# Altium footprint library Neutrik_NC4MBV.PcbLib: 1 footprints
Each footprint in its own frame and in the unit in brackets; x right, y up, seen from the top. Pads: shape width x height; smd on the part's side, far side on the other; paste and mask are expansions set on the pad; w line width, h text height; cw(c..) or ccw(c..) is an arc to the next point about the centre after c.
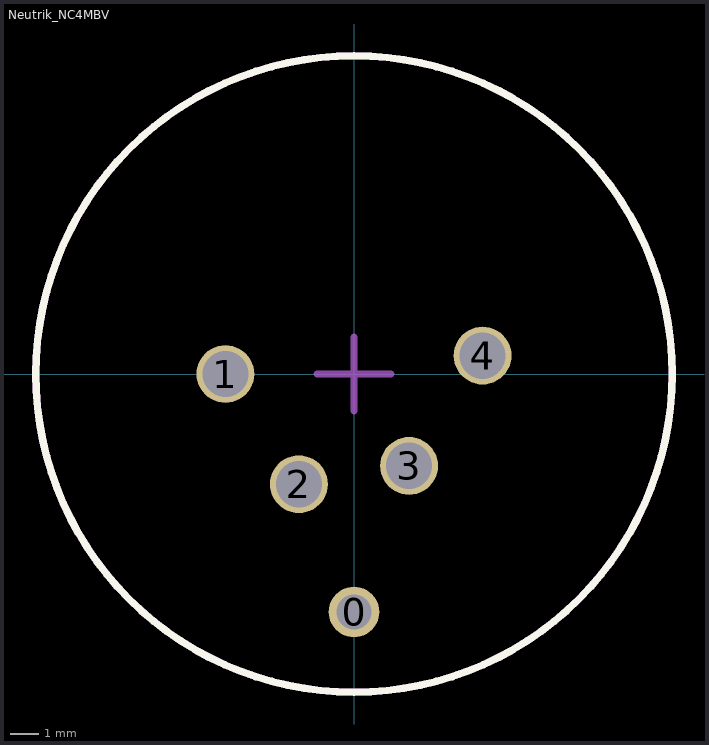
[diagram p0: the footprint, top view; thin cyan lines are the x and y axes]

## Neutrik_NC4MBV [mm]
pads (5):
  round 1.75 hole 1.2: 0(0,-8.225)
  round 2 hole 1.6: 1(-4.445,0) 2(-1.905,-3.81) 3(1.905,-3.175) 4(4.445,0.635)
Top Overlay:
  circle w0.254: c0,0 r11
Mechanical 15:
  circle w0.254: c0,0 r11
  lines w0.254: -1.27,0 1.27,0 ; 0,-1.27 0,1.27
3D body: height 26.7, standoff -3.5, extent -12.848,-14 12.5,12.847